# EAGLE library part 1X6 (library headers(.1in)(samtec))
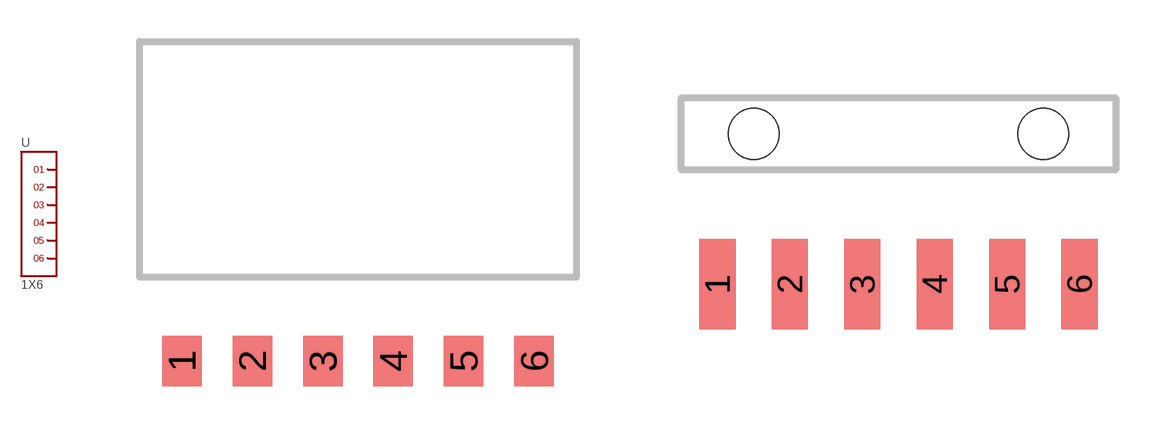
[diagram p0: symbol with the pads of SMH-106-XX-X-S; footprints SMH-106-XX-X-S, TSM-106-XX-X-SH-A]

Designator prefix -

## 1X6.SMH.S  [SMH-106-XX-X-S]
1  1
2  2
3  3
4  4
5  5
6  6

## 1X6.TSM.SH  [TSM-106-XX-X-SH-A]
Pads as for SMH-106-XX-X-S

## Footprint SMH-106-XX-X-S (pad centres in mm)
smd 1.422 x 1.829: 1 -6.35,0; 2 -3.81,0; 3 -1.27,0; 4 1.27,0; 5 3.81,0; 6 6.35,0

## Footprint TSM-106-XX-X-SH-A (pad centres in mm)
Terminal Strip, Dual Row Horizontal, Surface Mount, 0.100 inch Pitch, 6Pins
smd 1.27 x 3.175: 1 -6.35,0; 2 -3.81,0; 3 -1.27,0; 4 1.27,0; 5 3.81,0; 6 6.35,0
hole 1.778 at -5.08,5.283
hole 1.778 at 5.08,5.283